# Altium footprint library PCB1.PcbLib: 10 footprints
Each footprint in its own frame and in the unit in brackets; x right, y up, seen from the top. Pads: shape width x height; smd on the part's side, far side on the other; paste and mask are expansions set on the pad; w line width, h text height; cw(c..) or ccw(c..) is an arc to the next point about the centre after c.
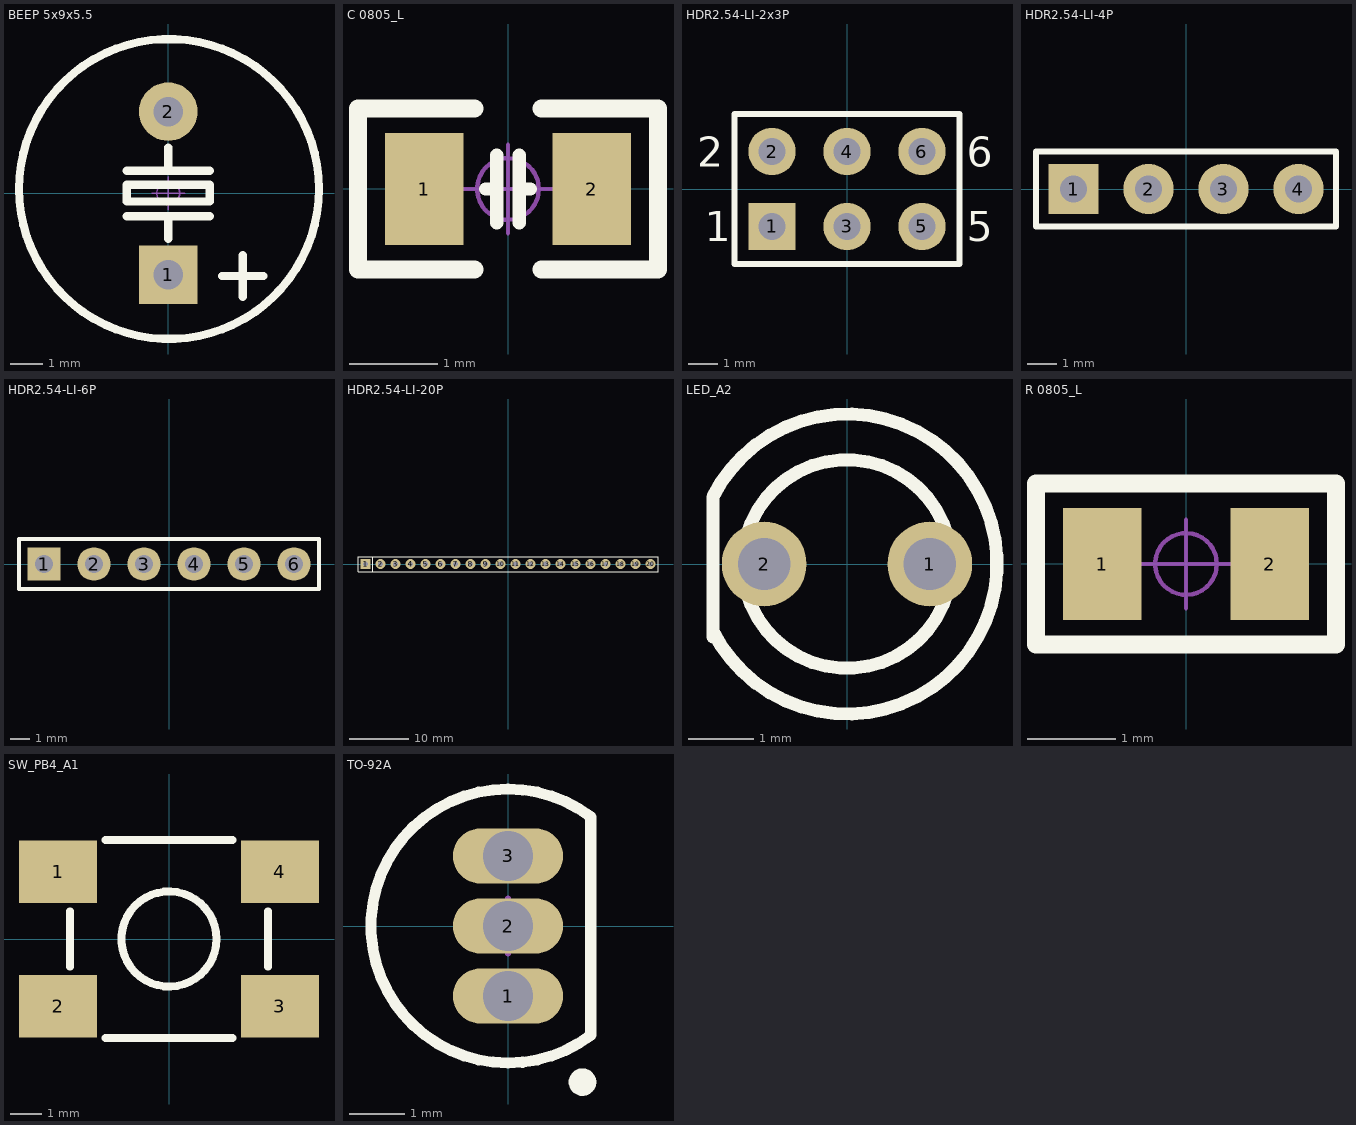
[diagram p0: the footprints below, top view; thin cyan lines are the x and y axes]

## BEEP 5x9x5.5 [mm] "5*9*5.5mm(脚距,直径,高度)        淘宝ID:黄晶宝石"
pads (2):
  rect 1.8x1.8 hole 0.9: 1(0,-2.5)
  round 1.8 hole 0.9: 2(0,2.5)
Top Overlay:
  circle w0.254: c0.023,0.127 r4.6
  lines w0.254: -1.27,-0.709 1.27,-0.709 ; -1.27,0.685 1.27,0.685 ; 0,-1.397 0,-0.709 ; 0,0.812 0,1.397 ; 1.651,-2.54 2.921,-2.54 ; 2.286,-3.175 2.286,-1.905 ; -1.27,-0.254 -1.27,0.254 1.27,0.254 1.27,-0.254 -1.27,-0.254
Mechanical 15:
  circle w0.05: c0,0 r0.35
  lines w0.05: -0.5,0 0.5,0 ; 0,-0.5 0,0.5
3D body "BEEP 5x9x5.5.STEP": height 5.45, standoff -3.55, extent -4.5,-4.5 4.5,4.5

## C 0805_L [mil] "无极性贴片电容                                        淘宝ID:黄晶宝石"
height 19.68
pads (2):
  rect 35x50 smd: 1(-37.4,0) 2(37.4,0)
Top Overlay:
  lines w6: -10,0 -5,0 ; -5,-15 -5,15 ; 5,-15 5,15 ; 5,0 10,0
  lines w8: -15,-36 -66.93,-36 -66.93,36 -15,36 ; 15,-36 66.93,-36 66.93,36 15,36
Mechanical 15:
  circle w1.97: c0,0 r13.78
  circle w1.97: c0,0 r13.78
  lines w1.97: -19.68,0 19.68,0 -19.68,0 ; 0,-19.68 0,19.68 0,-19.68
3D body "C 0805.STEP": height 20.08, standoff -0.39, extent -39.37,-24.02 39.37,24.02

## HDR2.54-LI-2x3P [mm] "封装库来自淘宝卖家 ID：黄晶宝石"
pads (6):
  rect 1.6x1.6 hole 0.9: 1(-2.54,-1.27)
  round 1.6 hole 0.9: 2(-2.54,1.27) 3(0,-1.27) 4(0,1.27) 5(2.54,-1.27) 6(2.54,1.27)
Top Overlay:
  lines w0.2: -1.058,-2.54 3.81,-2.54 ; 3.81,-2.54 3.81,2.54 -3.81,2.54 -3.81,-2.54 3.81,-2.54
  text "6" at 4.064,0.762 h1.02
  text "5" at 4.064,-1.778 h1.02
  text "2" at -5.08,0.762 h1.02
  text "1" at -4.826,-1.778 h1.02
3D body "HDR2.54-1x2P.STEP": height 8.5, standoff -3, extent 1.27,-2.54 3.81,2.54
3D body "HDR2.54-1x2P.STEP": height 8.5, standoff -3, extent -3.81,-2.54 -1.27,2.54
3D body "HDR2.54-1x2P.STEP": height 8.5, standoff -3, extent -1.27,-2.54 1.27,2.54

## HDR2.54-LI-4P [mm] "排针，4脚"
pads (4):
  rect 1.7x1.7 hole 0.9: 1(-3.81,0)
  round 1.7 hole 0.9: 2(-1.27,0) 3(1.27,0) 4(3.81,0)
Top Overlay:
  lines w0.2: -5.08,-1.27 5.08,-1.27 5.08,1.27 -5.08,1.27 -5.08,-1.27
3D body "HDR2.54-1P.STEP": height 8.5, standoff -3, extent 2.54,-1.27 5.08,1.27
3D body "HDR2.54-1P.STEP": height 8.5, standoff -3, extent 0,-1.27 2.54,1.27
3D body "HDR2.54-1P.STEP": height 8.5, standoff -3, extent -2.54,-1.27 0,1.27
3D body "HDR2.54-1P.STEP": height 8.5, standoff -3, extent -5.08,-1.27 -2.54,1.27

## HDR2.54-LI-6P [mm] "排针，6脚"
pads (6):
  rect 1.7x1.7 hole 0.9: 1(-6.35,0)
  round 1.7 hole 0.9: 2(-3.81,0) 3(-1.27,0) 4(1.27,0) 5(3.81,0) 6(6.35,0)
Top Overlay:
  lines w0.2: -7.62,-1.27 -7.62,1.27 7.62,1.27 7.62,-1.27 -7.62,-1.27
3D body "HDR2.54-1P.STEP": height 8.5, standoff -3, extent 5.08,-1.27 7.62,1.27
3D body "HDR2.54-1P.STEP": height 8.5, standoff -3, extent 2.54,-1.27 5.08,1.27
3D body "HDR2.54-1P.STEP": height 8.5, standoff -3, extent 0,-1.27 2.54,1.27
3D body "HDR2.54-1P.STEP": height 8.5, standoff -3, extent -2.54,-1.27 0,1.27
3D body "HDR2.54-1P.STEP": height 8.5, standoff -3, extent -5.08,-1.27 -2.54,1.27
3D body "HDR2.54-1P.STEP": height 8.5, standoff -3, extent -7.62,-1.27 -5.08,1.27

## HDR2.54-LI-20P [mm] "排针，20脚"
pads (20):
  rect 1.7x1.7 hole 0.9: 1(-24.13,0)
  round 1.7 hole 0.9: 2(-21.59,0) 3(-19.05,0) 4(-16.51,0) 5(-13.97,0) 6(-11.43,0) 7(-8.89,0) 8(-6.35,0) 9(-3.81,0) 10(-1.27,0) 11(1.27,0) 12(3.81,0) 13(6.35,0) 14(8.89,0) 15(11.43,0) 16(13.97,0)
  round 1.7 hole 0.762: 17(16.51,0) 18(19.05,0) 19(21.59,0) 20(24.13,0)
Top Overlay:
  lines w0.2: -22.88,-1.25 -22.88,1.25 ; -25.4,-1.27 25.4,-1.27 25.4,1.27 -23.495,1.27 -25.4,1.27 -25.4,-1.27
3D body "HDR2.54-1P.STEP": height 8.5, standoff -3, extent 22.86,-1.27 25.4,1.27
3D body "HDR2.54-1P.STEP": height 8.5, standoff -3, extent 17.78,-1.27 20.32,1.27
3D body "HDR2.54-1P.STEP": height 8.5, standoff -3, extent 20.32,-1.27 22.86,1.27
3D body "HDR2.54-1P.STEP": height 8.5, standoff -3, extent 12.7,-1.27 15.24,1.27
3D body "HDR2.54-1P.STEP": height 8.5, standoff -3, extent 15.24,-1.27 17.78,1.27
3D body "HDR2.54-1P.STEP": height 8.5, standoff -3, extent 10.16,-1.27 12.7,1.27
3D body "HDR2.54-1P.STEP": height 8.5, standoff -3, extent 5.08,-1.27 7.62,1.27
3D body "HDR2.54-1P.STEP": height 8.5, standoff -3, extent 7.62,-1.27 10.16,1.27
3D body "HDR2.54-1P.STEP": height 8.5, standoff -3, extent 0,-1.27 2.54,1.27
3D body "HDR2.54-1P.STEP": height 8.5, standoff -3, extent 2.54,-1.27 5.08,1.27
3D body "HDR2.54-1P.STEP": height 8.5, standoff -3, extent -2.54,-1.27 0,1.27
3D body "HDR2.54-1P.STEP": height 8.5, standoff -3, extent -7.62,-1.27 -5.08,1.27
3D body "HDR2.54-1P.STEP": height 8.5, standoff -3, extent -5.08,-1.27 -2.54,1.27
3D body "HDR2.54-1P.STEP": height 8.5, standoff -3, extent -12.7,-1.27 -10.16,1.27
3D body "HDR2.54-1P.STEP": height 8.5, standoff -3, extent -10.16,-1.27 -7.62,1.27
3D body "HDR2.54-1P.STEP": height 8.5, standoff -3, extent -15.24,-1.27 -12.7,1.27
3D body "HDR2.54-1P.STEP": height 8.5, standoff -3, extent -20.32,-1.27 -17.78,1.27
3D body "HDR2.54-1P.STEP": height 8.5, standoff -3, extent -17.78,-1.27 -15.24,1.27
3D body "HDR2.54-1P.STEP": height 8.5, standoff -3, extent -25.4,-1.27 -22.86,1.27
3D body "HDR2.54-1P.STEP": height 8.5, standoff -3, extent -22.86,-1.27 -20.32,1.27

## LED_A2 [mm] "直径3MM二极管"
height 5.5
pads (2):
  round 1.3 hole 0.8: 1(1.27,0) 2(-1.27,0)
Top Overlay:
  circle w0.2: c0,0 r1.6
  lines w0.2: -2.057,-1.118 -2.057,1.029 cw(c0,0) -2.057,-1.029

## R 0805_L [mil] "1/8W贴片电阻"
pads (2):
  rect 35x50 smd: 1(-37.4,0) 2(37.4,0)
Top Overlay:
  lines w8: -66.93,-36 66.93,-36 66.93,36 -66.93,36 -66.93,-36
Mechanical 15:
  circle w1.97: c0,0 r13.78
  lines w1.97: -19.68,0 19.68,0 ; 0,-19.68 0,19.68
3D body "R 0805.STEP": height 19.72, standoff -0.24, extent -39.37,-24.6 39.37,24.61

## SW_PB4_A1 [mm]
pads (4):
  rect 2.5x2 smd: 1(-3.556,2.159) 2(-3.556,-2.159) 3(3.556,-2.159) 4(3.556,2.159)
Top Overlay:
  circle w0.254: c0,0 r1.524
  lines w0.25: -3.175,-0.889 -3.175,0.889 ; -2.032,-3.175 2.032,-3.175 ; -2.032,3.175 2.032,3.175 ; 3.175,-0.889 3.175,0.889
3D body: height 6, standoff 0, extent -1.524,-1.524 1.524,1.524
3D body: height 1.5, standoff 0, extent -3.175,-3.175 3.175,3.175

## TO-92A [mm] "TO, Flat Index; 3 In-Line, Axial Leads; Body Dia. 4.5mm; Leads 0.51 x 0.48 mm (max)"
height 6.86
pads (3):
  oval 2x1 hole 0.9: 1(0,-1.27) 2(0,0) 3(0,1.27)
Top Overlay:
  circle w0.25: c1.35,-2.83 r0.125
  lines w0.2: 1.5,-1.98 cw(c0,0) 1.5,1.98 1.5,-1.98
Mechanical 13:
  lines w0.1: 1.5,-1.98 cw(c0,0) 1.5,1.98 1.5,-1.98
Mechanical 15:
  lines w0.1: -0.5,0 0.5,0 ; 0,-0.5 0,0.5
3D body: height 6.86, standoff 2.2, extent -2.485,-2.495 1.501,2.495